# Altium schematic symbol library D_Quad_CC_5p.SchLib: 1 symbol
Pins are listed as number, name and electrical type; pins without a type are passive.

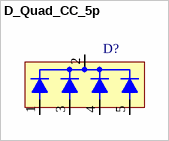
[diagram p0: symbol D_Quad_CC_5p]

## D_Quad_CC_5p
designator D?
pins: 1, 2, 3, 4, 5